# EAGLE library part ADAFRUIT_TRINKET_MINI_MICROCONTROLLER_5V_LOGIC (library Adafruit)
Adafruit Trinket - Mini Microcontroller - 5V Logic Adafruit Trinket - Mini Microcontroller - 5V Logic Further information:http://adafru.it/1501 Cost:$7.95
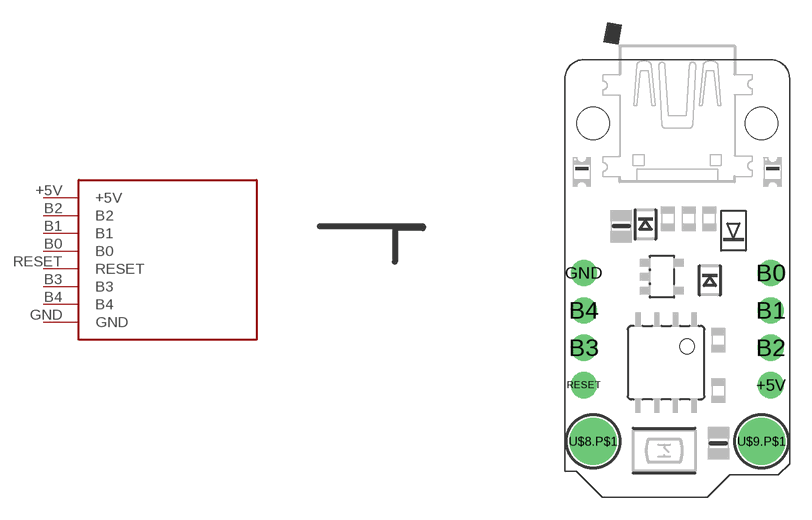
[diagram p10: symbol with the pads of ADAFRUIT_TRINKET_MINI_MICROCONTROLLER_5V_LOGIC; footprint ADAFRUIT_TRINKET_MINI_MICROCONTROLLER_5V_LOGIC]

Designator prefix -

## ADAFRUIT_TRINKET_MINI_MICROCONTROLLER_5V_LOGIC-BOB  [ADAFRUIT_TRINKET_MINI_MICROCONTROLLER_5V_LOGIC]
+5V  +5V
B0  B0
B1  B1
B2  B2
B3  B3
B4  B4
GND  GND
RESET  RESET

## Footprint ADAFRUIT_TRINKET_MINI_MICROCONTROLLER_5V_LOGIC (pad centres in mm)
drill 1.016 pad 1.778: +5V 34.417,11.684; B0 34.417,19.304; B1 34.417,16.764; B2 34.417,14.224; B3 21.717,14.224; B4 21.717,16.764; GND 21.717,19.304; RESET 21.717,11.684
drill 2.2 pad 3: U$8.P$1 22.352,7.874; U$9.P$1 33.782,7.874
hole 2.2 at 22.352,29.464
hole 2.2 at 33.782,29.464